# EAGLE library part OLIMEX_IC_RTL8211CL-GR (library A20-OLinuXino-Lime2_Rev_C)
RTL8211CL-GR INTEGRATED 10/100/1000 GIGABIT ETHERNET TRANSCEIVER This element was created by Penko Bozhkov
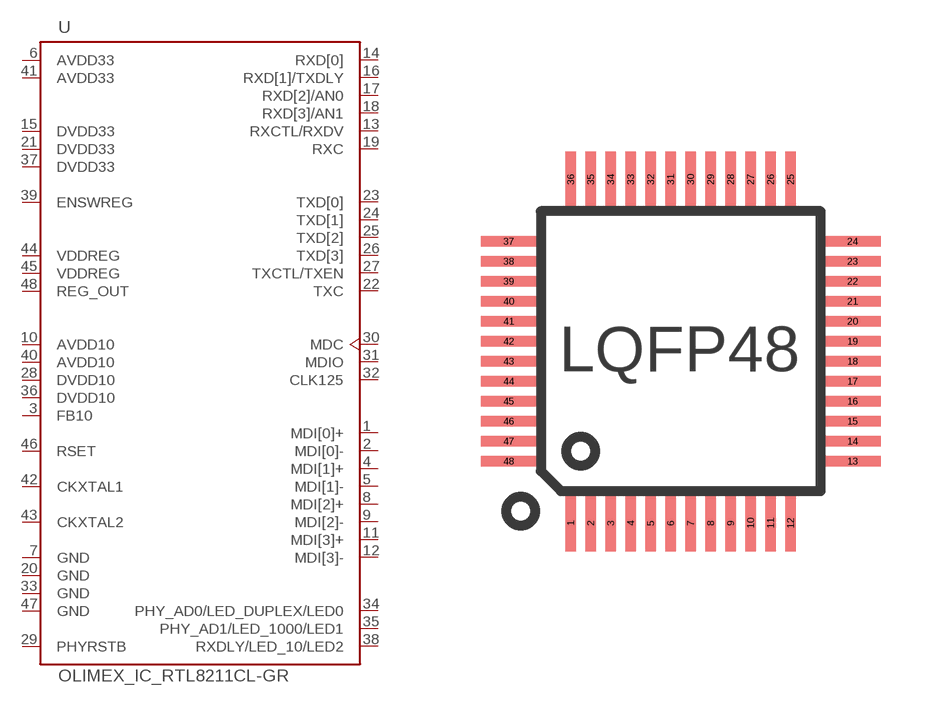
[diagram p12: symbol with the pads of OLIMEX_IC_LQFP48; footprint OLIMEX_IC_LQFP48]

Designator prefix U

## OLIMEX_IC_RTL8211CL-GR  [OLIMEX_IC_LQFP48]
1  MDI[0]+
2  MDI[0]-
3  FB10  in
4  MDI[1]+
5  MDI[1]-
6  AVDD33  pwr
7  GND  pwr
8  MDI[2]+
9  MDI[2]-
10  AVDD10  pwr
11  MDI[3]+
12  MDI[3]-
13  RXCTL/RXDV  out
14  RXD[0]  out
15  DVDD33  pwr
16  RXD[1]/TXDLY
17  RXD[2]/AN0
18  RXD[3]/AN1
19  RXC  out
20  GND  pwr
21  DVDD33  pwr
22  TXC  in
23  TXD[0]  in
24  TXD[1]  in
25  TXD[2]  in
26  TXD[3]  in
27  TXCTL/TXEN  in
28  DVDD10  pwr
29  PHYRSTB  in
30  MDC  in
31  MDIO
32  CLK125  out
33  GND  pwr
34  PHY_AD0/LED_DUPLEX/LED0  in
35  PHY_AD1/LED_1000/LED1
36  DVDD10  pwr
37  DVDD33  pwr
38  RXDLY/LED_10/LED2
39  ENSWREG  in
40  AVDD10  pwr
41  AVDD33  pwr
42  CKXTAL1  in
43  CKXTAL2  out
44  VDDREG  pwr
45  VDDREG  pwr
46  RSET  in
47  GND  pwr
48  REG_OUT  out

## Footprint OLIMEX_IC_LQFP48 (pad centres in mm)
LQFP48 - 48 pin Low-profile Quad Flat Package This package is designed by Penko according to STM32F103xx.pdf Pitch:0,50mm; Pad Width:0,254mm; Pad Length:1,60mm; Pads Distance(inner edge to inner edge):7,00mm; Pads Distance(out edge to out edge):9,00mm; Dimensions:7,00x7,00x1,60mm;
smd 0.254 x 1.4: 1 -2.75,-4.3; 2 -2.25,-4.3; 3 -1.75,-4.3; 4 -1.25,-4.3; 5 -0.75,-4.3; 6 -0.25,-4.3; 7 0.25,-4.3; 8 0.75,-4.3; 9 1.25,-4.3; 10 1.75,-4.3; 11 2.25,-4.3; 12 2.75,-4.3; 25 2.75,4.3; 26 2.25,4.3; 27 1.75,4.3; 28 1.25,4.3; 29 0.75,4.3; 30 0.25,4.3; 31 -0.25,4.3; 32 -0.75,4.3; 33 -1.25,4.3; 34 -1.75,4.3; 35 -2.25,4.3; 36 -2.75,4.3
smd 1.4 x 0.254: 13 4.3,-2.75; 14 4.3,-2.25; 15 4.3,-1.75; 16 4.3,-1.25; 17 4.3,-0.75; 18 4.3,-0.25; 19 4.3,0.25; 20 4.3,0.75; 21 4.3,1.25; 22 4.3,1.75; 23 4.3,2.25; 24 4.3,2.75; 37 -4.3,2.75; 38 -4.3,2.25; 39 -4.3,1.75; 40 -4.3,1.25; 41 -4.3,0.75; 42 -4.3,0.25; 43 -4.3,-0.25; 44 -4.3,-0.75; 45 -4.3,-1.25; 46 -4.3,-1.75; 47 -4.3,-2.25; 48 -4.3,-2.75